# EAGLE library part CAT16-220J4LF (library ADC)
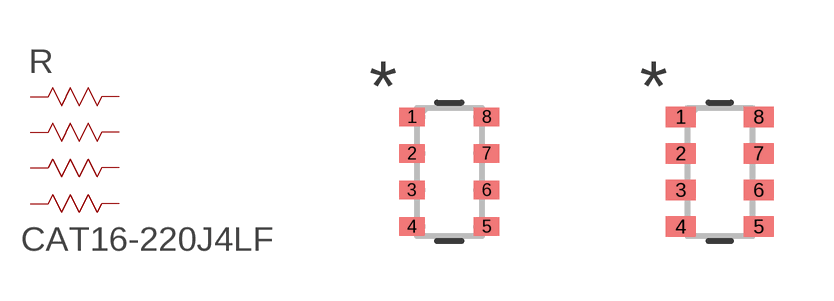
[diagram p3: symbol with the pads of BO_CAT16; footprints BO_CAT16, BO_CAT16-M]

Designator prefix R

## CAT16-220J4LF (COPYRIGHT: Copyright (C) 2021 Ultra Librarian. All rights reserved.; MANUFACTURER_PART_NUMBER: CAT16-220J4LF; MFR_NAME: Bourns Electronics)  [BO_CAT16]
1  1  pas
2  2  pas
3  3  pas
4  4  pas
5  5  pas
6  6  pas
7  7  pas
8  8  pas

## CAT16-220J4LFBO_CAT16-M (COPYRIGHT: Copyright (C) 2021 Ultra Librarian. All rights reserved.; MANUFACTURER_PART_NUMBER: CAT16-220J4LF; MFR_NAME: Bourns Electronics)  [BO_CAT16-M]
Pads as for BO_CAT16

## CAT16-220J4LFBO_CAT16-L (COPYRIGHT: Copyright (C) 2021 Ultra Librarian. All rights reserved.; MANUFACTURER_PART_NUMBER: CAT16-220J4LF; MFR_NAME: Bourns Electronics)  [BO_CAT16-L]
Pads as for BO_CAT16

## Footprint BO_CAT16 (pad centres in mm)
smd 0.634 x 0.459: 1 -0.933,1.372; 2 -0.933,0.457; 3 -0.933,-0.457; 4 -0.933,-1.372; 5 0.933,-1.372; 6 0.933,-0.457; 7 0.933,0.457; 8 0.933,1.372

## Footprint BO_CAT16-M (pad centres in mm)
smd 0.754 x 0.509: 1 -0.973,1.372; 2 -0.973,0.457; 3 -0.973,-0.457; 4 -0.973,-1.372; 5 0.973,-1.372; 6 0.973,-0.457; 7 0.973,0.457; 8 0.973,1.372

## Footprint BO_CAT16-L (pad centres in mm)
smd 0.504 x 0.459: 1 -0.898,1.372; 2 -0.898,0.457; 3 -0.898,-0.457; 4 -0.898,-1.372; 5 0.898,-1.372; 6 0.898,-0.457; 7 0.898,0.457; 8 0.898,1.372